# EAGLE library part 7508111120 (library wurth_electronics_midcom_inc_v2-1)
Package Style: EE16/7/5 Mounting: THT Pins: 10 pins Bobbin: 070-5278 Best pinouts for production vary per application. Please contact Wurth Electronics Midcom, Inc. for assistance with your custom design. Website: Wurth Electronics Midcom <http://www.we-online.com/midcom> Contact us Wurth Electronics Midcom, Inc. 121 Airport Dr. Watertown, SD 57201 Phone: (605) 886-4385 Fax: (605) 886-4486 E-Mail: midcom@we-online.com
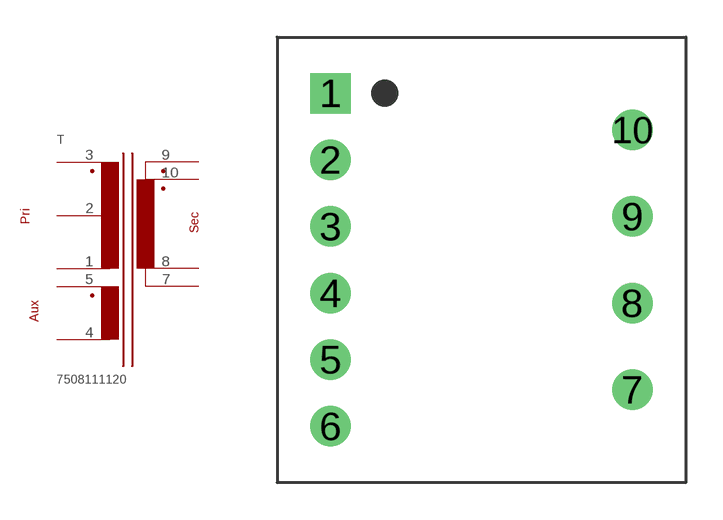
[diagram p104: symbol with the pads of EE16/7/5_THT_V_10PIN_(5278); footprint EE16/7/5_THT_V_10PIN_(5278)]

Designator prefix T

## 7508111120  [EE16/7/5_THT_V_10PIN_(5278)]
1  1  pas
2  2  pas
3  3  pas
4  4  pas
5  5  pas
7  7  pas
8  8  pas
9  9  pas
10  10  pas

## Footprint EE16/7/5_THT_V_10PIN_(5278) (pad centres in mm)
Package Style: EE16/7/5 Mounting: THT Pins: 10 Bobbin: 070-5278
drill 1.092 square: 1 -6.096,6.731
drill 1.092: 2 -6.096,4.039; 3 -6.096,1.346; 4 -6.096,-1.346; 5 -6.096,-4.039; 6 -6.096,-6.731; 7 6.096,-5.258; 8 6.096,-1.753; 9 6.096,1.753; 10 6.096,5.258